# Altium schematic symbol library REF5025.SchLib: 1 symbol
Pins are listed as number, name and electrical type; pins without a type are passive.

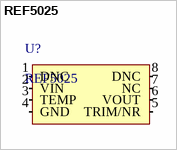
[diagram p0: symbol REF5025]

## REF5025
designator U?
pins: 1 DNC, 2 VIN (power), 3 TEMP (out), 4 GND (power), 5 TRIM/NR (in), 6 VOUT (power), 7 NC, 8 DNC